# EAGLE library part AD8612 (library analog-devices)
Ultrafast 4 ns Single Supply Comparators Source: http://www.analog.com/UploadedFiles/Data_Sheets/703465986AD8611_2_0.pdf Upgrade for LT1394 and LT1016 Designs
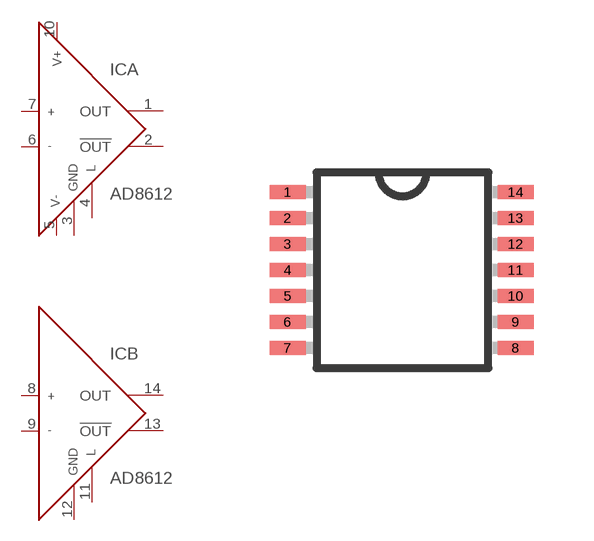
[diagram p40: symbol with the pads of TSSOP14; footprint TSSOP14]

Designator prefix IC; gates B=AD8612 A=AD8611

## AD8612RU  [TSSOP14]
1  A:OUT  out
2  A:!OUT  out
3  A:GND  pwr
4  A:L  in
5  A:V-  pwr
6  A:IN-  in
7  A:IN+  in
8  B:IN+  in
9  B:IN-  in
10  A:V+  pwr
11  B:L  in
12  B:GND  pwr
13  B:!OUT  out
14  B:OUT  out

## Footprint TSSOP14 (pad centres in mm)
14-Lead Thin Shrink Small Outline Package [TSSOP] Source: Analog Devices .. 780914713ADD8704_0.pdf
smd 0.9 x 0.35: 1 -2.875,1.95; 2 -2.875,1.3; 3 -2.875,0.65; 4 -2.875,0; 5 -2.875,-0.65; 6 -2.875,-1.3; 7 -2.875,-1.95; 8 2.825,-1.95; 9 2.825,-1.3; 10 2.825,-0.65; 11 2.825,0; 12 2.825,0.65; 13 2.825,1.3; 14 2.825,1.95